# Altium footprint library Alpha_RV16AF-41-15R1.PcbLib: 1 footprints
Each footprint in its own frame and in the unit in brackets; x right, y up, seen from the top. Pads: shape width x height; smd on the part's side, far side on the other; paste and mask are expansions set on the pad; w line width, h text height; cw(c..) or ccw(c..) is an arc to the next point about the centre after c.
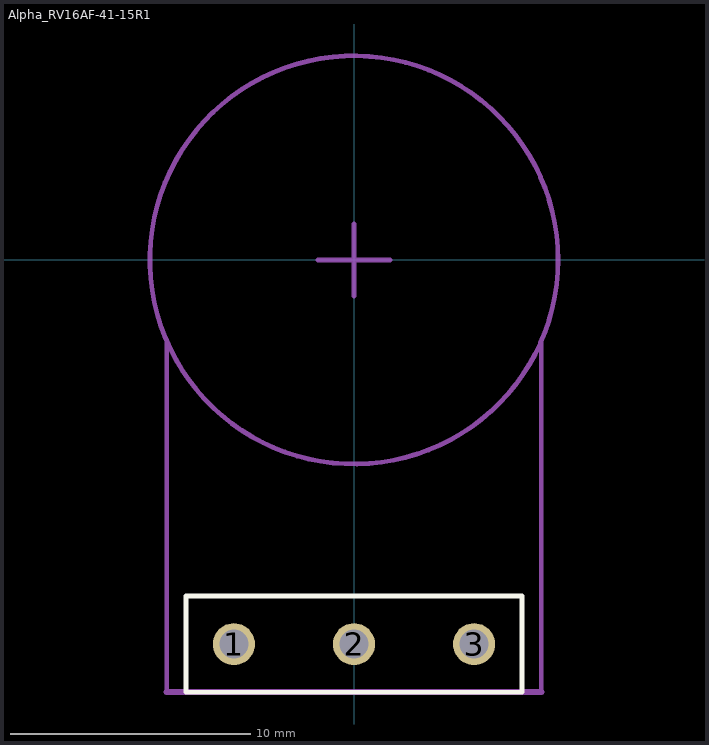
[diagram p0: the footprint, top view; thin cyan lines are the x and y axes]

## Alpha_RV16AF-41-15R1 [mm] "Alpha 16mm Smooth Shaft Right-angle PC Mount"
height 10.7
pads (3):
  round 1.75 hole 1.2: 1(-5,-16) 2(0,-16) 3(5,-16)
Top Overlay:
  lines w0.2: -7,-18 -7,-14 7,-14 7,-18 -7,-18
Mechanical 15:
  circle w0.2: c0,0 r8.5
  lines w0.2: -7.8,-18 -7.8,-3.4 ; -1.5,0 1.5,0 ; 0,-1.5 0,1.5 ; 7.8,-18 7.8,-3.4
  lines w0.254: -7.8,-18 7.8,-18
3D body: height 23, standoff 9, extent -2.976,-2.994 3,2.994
3D body: height 10.7, standoff 1.6, extent -8.433,-8.483 8.5,8.483